# EAGLE library part 1757323 (library 1757323)
MSTBA 2,5/10-G-5,08 - PCB headers, nominal cross section: 2.5 mm2, color: green, nominal current: 12 A, rated voltage (III/2): 320 V, contact surface: Sn, contact connection type: Pin, number of potentials: 10, number of rows: 1, number of positions: 10, number of connections: 10, product range: MSTBA 2,5/..-G, pitch: 5.08 mm, mounting: Wave soldering, pin layout: Linear pinning, solder pin [P]: 3.23 mm, number of solder pins per potential: 1, plug-in system: COMBICON MSTB 2,5, Pin connector patt Source: Datasheet <https://www.phoenixcontact.com/en-us/products/pcb-header-mstba-2510-g-508-1757323?type=pdf>
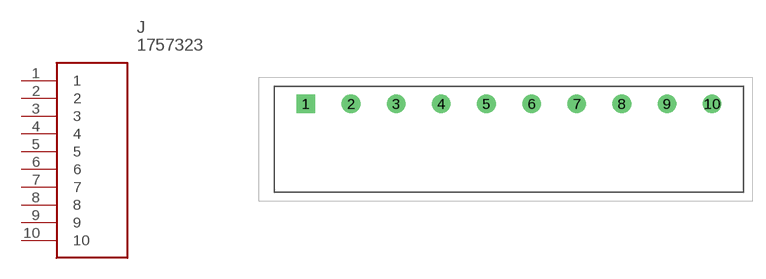
[diagram p0: symbol with the pads of 1757323; footprint 1757323]

Designator prefix J

## 1757323 (Description: MSTBA 2,5/10-G-5,08 - PCB headers, nominal cross section: 2.5 mm<sup>2</sup>, color: green, nominal current: 12 A, rated voltage (III/2): 320 V, contact surface: Sn, contact connection type: Pin, number of potentials: 10, number of rows: 1, number of positions: 10, number of connections: 10, product range: MSTBA 2,5/..-G, pitch: 5.08 mm, mounting: Wave soldering, pin layout: Linear pinning, solder pin [P]: 3.23 mm, number of solder pins per potential: 1, plug-in system: COMBICON MSTB 2,5, Pin connector patt; Height: 8.72mm; Manufacturer_Name: Phoenix Contact; Manufacturer_Part_Number: 1757323; Mouser_Part_Number: 651-1757323; Mouser_Price-Stock: https://www.mouser.co.uk/ProductDetail/Phoenix-Contact/1757323?qs=o3rrLWFGhRnEONaPlNkZ%252Bw%3D%3D)  [1757323]
1  1
2  2
3  3
4  4
5  5
6  6
7  7
8  8
9  9
10  10

## Footprint 1757323 (pad centres in mm)
1757323
drill 1.4 pad 2.1 square: 1 0,0
drill 1.4 pad 2.1: 2 5.08,0; 3 10.16,0; 4 15.24,0; 5 20.32,0; 6 25.4,0; 7 30.48,0; 8 35.56,0; 9 40.64,0; 10 45.72,0